# EAGLE library part KA2411 (library _mtvl_ic)
Telephone Bell Replacement IC Samsung Electronics
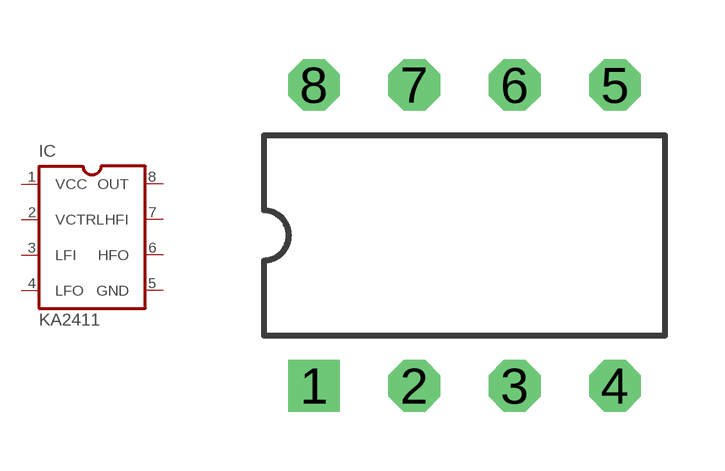
[diagram p18: symbol with the pads of DIL08_; footprint DIL08_]

Designator prefix IC

## KA2411  [DIL08_]
1  VCC
2  VCTRL
3  LFI
4  LFO
5  GND
6  HFO
7  HFI
8  OUT

## Footprint DIL08_ (pad centres in mm)
Dual In Line package type P
drill 0.8 square: 1 -3.81,-3.81
drill 0.8 octagon: 2 -1.27,-3.81; 3 1.27,-3.81; 4 3.81,-3.81; 5 3.81,3.81; 6 1.27,3.81; 7 -1.27,3.81; 8 -3.81,3.81